# Altium schematic symbol library Module,AC-DC,5V,600mA,Thru.Schlib: 1 symbol
Pins are listed as number, name and electrical type; pins without a type are passive.

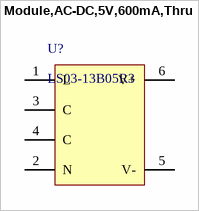
[diagram p0: symbol Module,AC-DC,5V,600mA,Thru]

## Module,AC-DC,5V,600mA,Thru
designator U?, comment LS03-13B05R3
Open Frame AC DC Converters 1 Output 5V 600mA 85 ~ 305 VAC, 70 ~ 430 VDC Input
pins: 1 L, 2 N, 3 C, 4 C, 5 V-, 6 V+